# Altium footprint library PCB.PCBLIB: 320 footprints (part 2 of 20)
Each footprint in its own frame and in the unit in brackets; x right, y up, seen from the top. Pads: shape width x height; smd on the part's side, far side on the other; paste and mask are expansions set on the pad; w line width, h text height; cw(c..) or ccw(c..) is an arc to the next point about the centre after c.
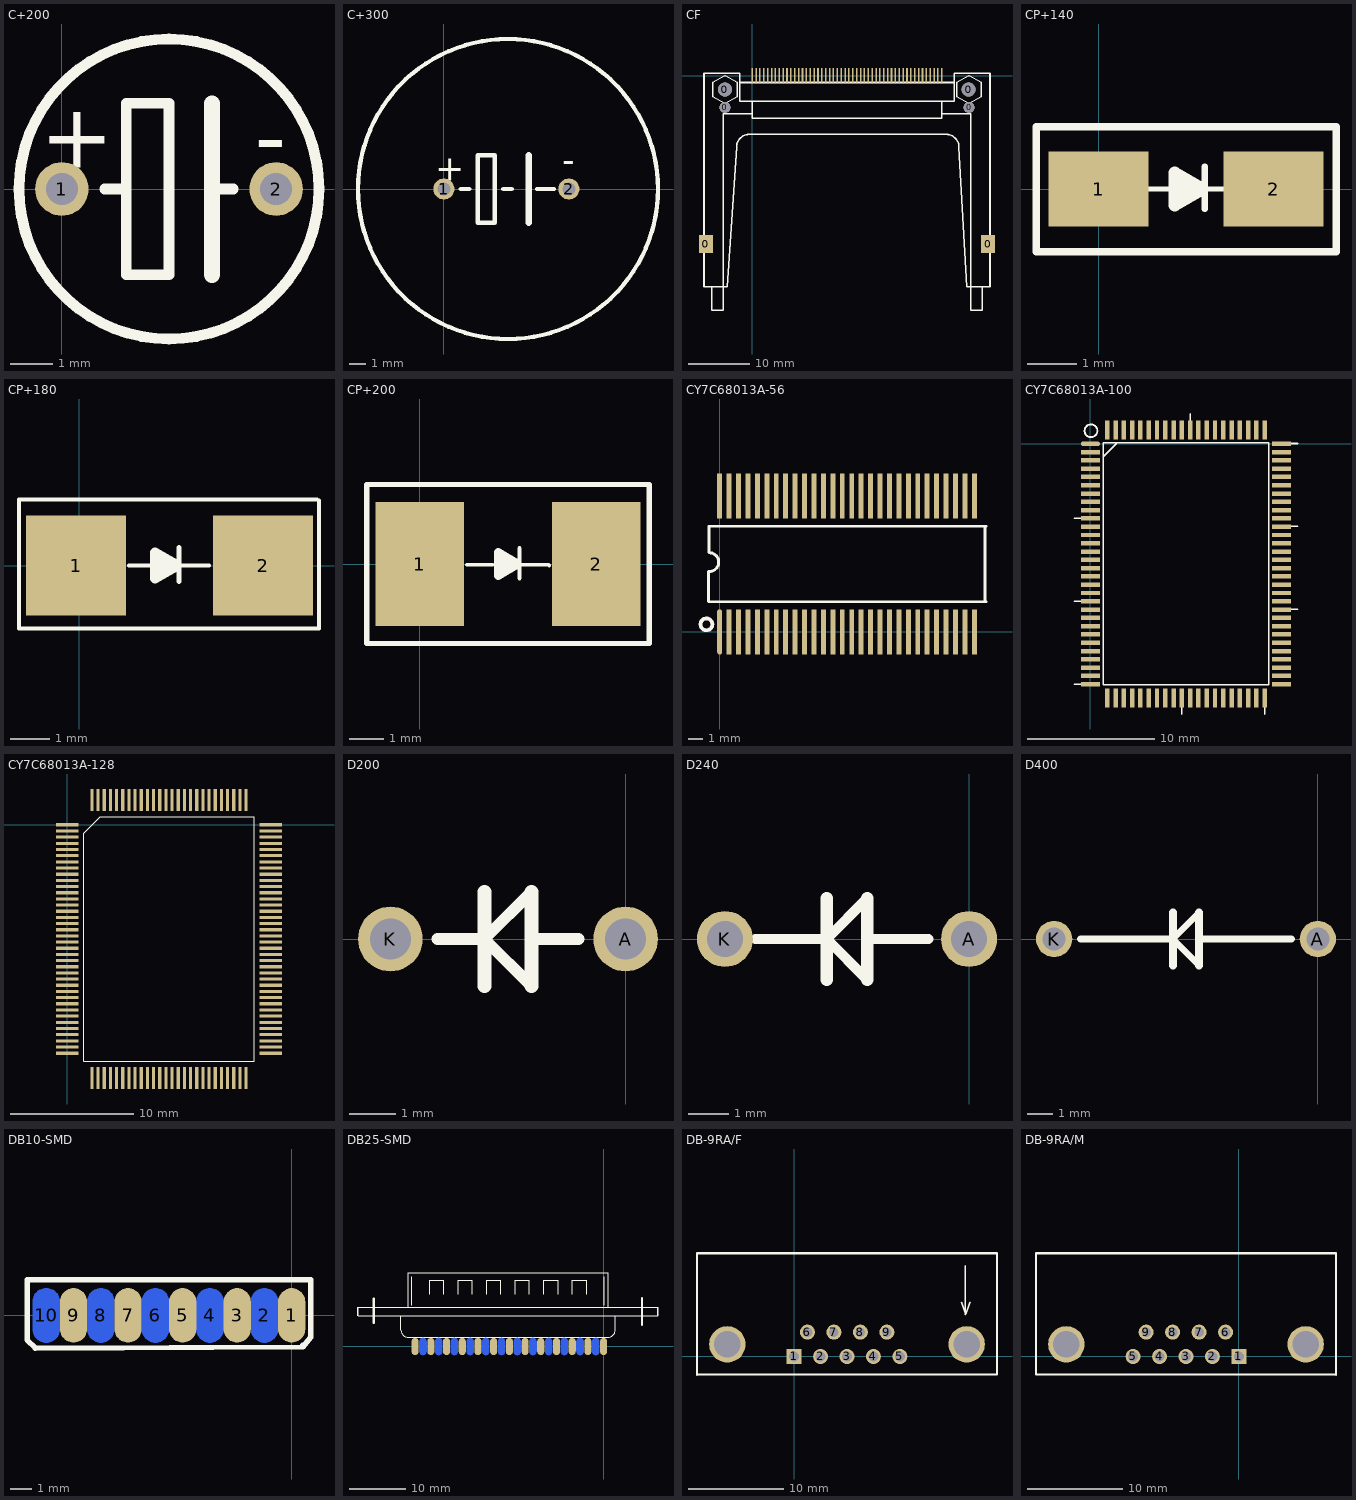
[diagram p1: the footprints below, top view; thin cyan lines are the x and y axes]

## C+200 [mil]
pads (2):
  round 50 hole 30: 1(0,0) 2(200,0)
TopOverlay:
  circle w10: c100,0 r140
  lines w10: 40,0 60,0 ; 140,0 160,0 ; 60,-80 100,-80 100,80 60,80 60,-80
  lines w15: 140,-80 140,80
  text "+" at -20,20 h60
  text "-" at 180,20 h60

## C+300 [mil]
pads (2):
  round 50 hole 30: 1(0,0) 2(295.28,0)
TopOverlay:
  circle w10: c151.34,0 r354.33
  lines w10: 40,0 60,0 ; 140,0 160,0 ; 220,0 260,0 ; 80,-80 120,-80 120,80 80,80 80,-80
  lines w15: 200,-80 200,80
  text "+" at -20,20 h60
  text "-" at 280,40 h60

## CF [mil]
pads (56):
  rect 90x115 smd: 0(-297.5,-1085) 0(1517.5,-1085)
  round 70 hole 70: 0(-175,-205) 0(1395,-205)
  round 90 hole 90: 0(-175,-90) 0(1392.5,-90)
  rect 10x100 smd: 1(0,0) 2(24.9,0) 3(49.8,0) 4(74.7,0) 5(99.6,0) 6(124.5,0) 7(149.4,0) 8(174.3,0) 9(199.2,0) 10(224.1,0) 11(249,0) 12(273.9,0) 13(298.8,0) 14(323.7,0) 15(348.6,0) 16(373.5,0) 17(398.4,0) 18(423.3,0) 19(448.2,0) 20(473.1,0) 21(498,0) 22(522.9,0) 23(547.8,0) 24(572.7,0) 25(597.6,0) 26(622.5,0) 27(647.4,0) 28(672.3,0) 29(697.2,0) 30(722.1,0) 31(747,0) 32(771.9,0) 33(796.8,0) 34(821.7,0) 35(846.6,0) 36(871.5,0) 37(896.4,0) 38(921.3,0) 39(946.2,0) 40(971.1,0) 41(996,0) 42(1020.9,0) 43(1045.8,0) 44(1070.7,0) 45(1095.6,0) 46(1120.5,0) 47(1145.4,0) 48(1170.3,0) 49(1195.2,0) 50(1220.1,0)
TopOverlay:
  lines w10: -260,-1360 -260,-1510 -185,-1510 -185,-1360 ; 0,-245 -185,-245 -185,-1360 ; 0,-165 0,-275 1220,-275 1220,-165 ; 1220,-245 1405,-245 1405,-1360 ; 1480,-1360 1480,-1510 1405,-1510 1405,-1360 ; -185,-1360 -310,-1360 -310,15 -80,15 -80,-45 ; -185,-1360 -160,-1360 -100.12,-460 cw(c-18.73,-460) -20.06,-378.62 1249.94,-378.62 cw(c1248.61,-460) 1330,-460 1380,-1360 1405,-1360 ; -80,-45 1300,-45 ; -80,-45 -80,-165 1300,-165 1300,-45 ; 1300,-45 1300,15 1530,15 1530,-1360 1405,-1360 ; -255,-135 -175,-180 -95,-135 -95,-45 -175,0 -255,-45 -255,-135 ; 1315,-135 1315,-45 1395,0 1475,-45 1475,-135 1395,-180 1315,-135

## CP+140 [mil]
pads (2):
  rect 80x60 smd: 1(0,0) 2(140,0)
TopOverlay:
  lines w4: 40,0 60,0 ; 83,0 100,0
  lines w5: 85,-16 85,18
  lines w6: -50,-50 190,-50 190,50 -50,50 -50,-50
  lines w10: 61,-13 82,-1 ; 61,-12 61,13 82,1 ; 61,0 71,0

## CP+180 [mil]
pads (2):
  rect 100x100 smd: 1(-3,0) 2(184,0)
TopOverlay:
  lines w3.94: -60,65 -60,-63 240,-63 240,65 ; -60,66 238,66 ; 50,0 70,0 ; 103,0 130,0
  lines w5: 100,-16 100,18
  lines w10: 76,-13 97,-1 ; 76,-12 76,13 97,1 ; 76,0 86,0

## CP+200 [mil]
pads (2):
  rect 100x140 smd: 1(0,0) 2(200,0)
TopOverlay:
  lines w3.94: 53,-1 83,-1 ; 115,-1 146,-1 147,-2
  lines w5: 113,-16 113,18
  lines w6: -60,-90 260,-90 260,90 -60,90 -60,-90
  lines w10: 89,-13 110,-1 ; 89,-12 89,13 110,1 ; 89,0 99,0

## CY7C68013A-56 [mil]
pads (56):
  oval 13x120 smd: 1(0,0)
  rect 13x120 smd: 2(25,0) 3(50,0) 4(75,0) 5(100,0) 6(125,0) 7(150,0) 8(175,0) 9(200,0) 10(225,0) 11(250,0) 12(275,0) 13(300,0) 14(325,0) 15(350,0) 16(375,0) 17(400,0) 18(425,0) 19(450,0) 20(475,0) 21(500,0) 22(525,0) 23(550,0) 24(575,0) 25(600,0) 26(625,0) 27(650,0) 28(675,0) 29(675,360) 30(650,360) 31(625,360) 32(600,360) 33(575,360) 34(550,360) 35(525,360) 36(500,360) 37(475,360) 38(450,360) 39(425,360) 40(400,360) 41(375,360) 42(350,360) 43(325,360) 44(300,360) 45(275,360) 46(250,360) 47(225,360) 48(200,360) 49(175,360) 50(150,360) 51(125,360) 52(100,360) 53(75,360) 54(50,360) 55(25,360) 56(0,360)
TopOverlay:
  circle w9.84: c-34.92,20 r15.75
  lines w7.87: -27.66,160.04 ccw(c-27.66,185.04) -27.66,210.04 -27.66,280 ; -25,80 705.32,80 ; -25,280 705.32,280 ; 702.66,80 702.66,280
  lines w8: -30,80 -30,160

## CY7C68013A-100 [mm]
pads (100):
  oval 1.5x0.35 smd: 1(0,0)
  rect 1.5x0.35 smd: 2(0,-0.65) 3(0,-1.3) 4(0,-1.95) 5(0,-2.6) 6(0,-3.25) 7(0,-3.9) 8(0,-4.55) 9(0,-5.2) 10(0,-5.85) 11(0,-6.5) 12(0,-7.15) 13(0,-7.8) 14(0,-8.45) 15(0,-9.1) 16(0,-9.75) 17(0,-10.4) 18(0,-11.05) 19(0,-11.7) 20(0,-12.35) 21(0,-13) 22(0,-13.65) 23(0,-14.3) 24(0,-14.95) 25(0,-15.6) 26(0,-16.25) 27(0,-16.9) 28(0,-17.55) 29(0,-18.2) 30(0,-18.85) 51(15,-18.85) 52(15,-18.2) 53(15,-17.55) 54(15,-16.9) 55(15,-16.25) 56(15,-15.6) 57(15,-14.95) 58(15,-14.3) 59(15,-13.65) 60(15,-13) 61(15,-12.35) 62(15,-11.7) 63(15,-11.05) 64(15,-10.4) 65(15,-9.75) 66(15,-9.1) 67(15,-8.45) 68(15,-7.8) 69(15,-7.15) 70(15,-6.5) 71(15,-5.85) 72(15,-5.2) 73(15,-4.55) 74(15,-3.9) 75(15,-3.25) 76(15,-2.6) 77(15,-1.95) 78(15,-1.3) 79(15,-0.65) 80(15,0)
  rect 0.35x1.5 smd: 31(1.325,-19.925) 32(1.975,-19.925) 33(2.625,-19.925) 34(3.275,-19.925) 35(3.925,-19.925) 36(4.575,-19.925) 37(5.225,-19.925) 38(5.875,-19.925) 39(6.525,-19.925) 40(7.175,-19.925) 41(7.825,-19.925) 42(8.475,-19.925) 43(9.125,-19.925) 44(9.775,-19.925) 45(10.425,-19.925) 46(11.075,-19.925) 47(11.725,-19.925) 48(12.375,-19.925) 49(13.025,-19.925) 50(13.675,-19.925) 81(13.675,1.075) 82(13.025,1.075) 83(12.375,1.075) 84(11.725,1.075) 85(11.075,1.075) 86(10.425,1.075) 87(9.775,1.075) 88(9.125,1.075) 89(8.475,1.075) 90(7.825,1.075) 91(7.175,1.075) 92(6.525,1.075) 93(5.875,1.075) 94(5.225,1.075) 95(4.575,1.075) 96(3.925,1.075) 97(3.275,1.075) 98(2.625,1.075) 99(1.975,1.075) 100(1.325,1.075)
TopOverlay:
  circle w0.152: c0.051,1.016 r0.5
  lines w0.127: -1.263,-18.848 -0.755,-18.848 ; -1.263,-12.346 -0.755,-12.346 ; -1.263,-5.844 -0.755,-5.844 ; 1,0.04 1,-18.89 14,-18.89 14,0.04 ; 1,0.075 14,0.075 ; 1.016,-1.016 2.032,0 ; 7.17,-21.185 7.17,-20.677 ; 7.83,1.827 7.83,2.335 ; 13.672,-21.185 13.672,-20.677 ; 15.755,-12.981 16.263,-12.981 ; 15.755,-6.479 16.263,-6.479 ; 15.755,0.024 16.263,0.024

## CY7C68013A-128 [mm]
pads (128):
  rect 1.8x0.254 smd: 1(0,0) 2(0,-0.5) 3(0,-1) 4(0,-1.5) 5(0,-2) 6(0,-2.5) 7(0,-3) 8(0,-3.5) 9(0,-4) 10(0,-4.5) 11(0,-5) 12(0,-5.5) 13(0,-6) 14(0,-6.5) 15(0,-7) 16(0,-7.5) 17(0,-8) 18(0,-8.5) 19(0,-9) 20(0,-9.5) 21(0,-10) 22(0,-10.5) 23(0,-11) 24(0,-11.5) 25(0,-12) 26(0,-12.5) 27(0,-13) 28(0,-13.5) 29(0,-14) 30(0,-14.5) 31(0,-15) 32(0,-15.5) 33(0,-16) 34(0,-16.5) 35(0,-17) 36(0,-17.5) 37(0,-18) 38(0,-18.5) 65(16.5,-18.5) 66(16.5,-18) 67(16.5,-17.5) 68(16.5,-17) 69(16.5,-16.5) 70(16.5,-16) 71(16.5,-15.5) 72(16.5,-15) 73(16.5,-14.5) 74(16.5,-14) 75(16.5,-13.5) 76(16.5,-13) 77(16.5,-12.5) 78(16.5,-12) 79(16.5,-11.5) 80(16.5,-11) 81(16.5,-10.5) 82(16.5,-10) 83(16.5,-9.5) 84(16.5,-9) 85(16.5,-8.5) 86(16.5,-8) 87(16.5,-7.5) 88(16.5,-7) 89(16.5,-6.5) 90(16.5,-6) 91(16.5,-5.5) 92(16.5,-5) 93(16.5,-4.5) 94(16.5,-4) 95(16.5,-3.5) 96(16.5,-3) 97(16.5,-2.5) 98(16.5,-2) 99(16.5,-1.5) 100(16.5,-1) 101(16.5,-0.5) 102(16.5,0)
  rect 0.254x1.8 smd: 39(2,-20.5) 40(2.5,-20.5) 41(3,-20.5) 42(3.5,-20.5) 43(4,-20.5) 44(4.5,-20.5) 45(5,-20.5) 46(5.5,-20.5) 47(6,-20.5) 48(6.5,-20.5) 49(7,-20.5) 50(7.5,-20.5) 51(8,-20.5) 52(8.5,-20.5) 53(9,-20.5) 54(9.5,-20.5) 55(10,-20.5) 56(10.5,-20.5) 57(11,-20.5) 58(11.5,-20.5) 59(12,-20.5) 60(12.5,-20.5) 61(13,-20.5) 62(13.5,-20.5) 63(14,-20.5) 64(14.5,-20.5) 103(14.5,2) 104(14,2) 105(13.5,2) 106(13,2) 107(12.5,2) 108(12,2) 109(11.5,2) 110(11,2) 111(10.5,2) 112(10,2) 113(9.5,2) 114(9,2) 115(8.5,2) 116(8,2) 117(7.5,2) 118(7,2) 119(6.5,2) 120(6,2) 121(5.5,2) 122(5,2) 123(4.5,2) 124(4,2) 125(3.5,2) 126(3,2) 127(2.5,2) 128(2,2)
TopOverlay:
  lines w0.1: 1.335,-19.165 1.335,-0.67 2.67,0.665 15.165,0.665 15.165,-19.165 1.335,-19.165

## D200 [mil]
pads (2):
  round 55 hole 35: A(0,0) K(-200,0)
TopOverlay:
  lines w10: -160,0 -120,0 ; -80,-40 -120,0 ; -80,0 -40,0 ; -80,40 -120,0
  lines w12: -120,-40 -120,40 ; -80,-40 -80,40

## D240 [mil]
pads (2):
  round 55 hole 35: A(0,0) K(-240,0)
TopOverlay:
  lines w10: -210,0 -140,0 ; -100,-40 -140,0 ; -100,40 -140,0 ; -60,0 -100,0 -40,0
  lines w12: -140,-40 -140,40 ; -100,-40 -100,40

## D400 [mil]
pads (2):
  round 55 hole 35: A(0,0) K(-400,0)
TopOverlay:
  lines w10: -360,0 -220,0 ; -180,-40 -220,0 ; -180,0 -40,0 ; -180,40 -220,0
  lines w12: -220,-40 -220,40 ; -180,-40 -180,40

## DB10-SMD [mil]
pads (10):
  oval 50x100 smd: 1(0,0) 3(-100,0) 5(-200,0) 7(-300,0) 9(-400,0)
  oval 50x100 smd far side: 2(-50,0) 4(-150,0) 6(-250,0) 8(-350,0) 10(-450,0)
TopOverlay:
  lines w10: 20,-55 20,-58 ; 20,-58 35,-40 35,65 -485,65 -485,50 -485,-45 -470,-60 20,-58

## DB25-SMD [mil]
pads (25):
  oval 50x120 smd: 1(0,0) 2(-110,0) 3(-220,0) 4(-330,0) 5(-440,0) 6(-550,0) 7(-660,0) 8(-770,0) 9(-880,0) 10(-990,0) 11(-1100,0) 12(-1210,0) 13(-1320,0)
  oval 50x120 smd far side: 14(-55,0) 15(-165,0) 16(-275,0) 17(-385,0) 18(-495,0) 19(-605,0) 20(-715,0) 21(-825,0) 22(-935,0) 23(-1045,0) 24(-1155,0) 25(-1265,0)
TopOverlay:
  lines w8: -1719.17,215 380.83,215 ; -1719.17,273.33 380.83,273.33 ; -1419.17,215 -1419.17,115 ccw(c-1369.17,115) -1369.17,65 30.83,65 ccw(c30.83,115) 80.83,115 80.83,215 ; -1369.17,273.33 -1369.17,515 30.83,515 30.83,273.33 ; -1344.17,290 -1344.17,490 ; -1219.17,365 -1219.17,465 -1119.17,465 -1119.17,365 ; -1019.17,365 -1019.17,465 -919.17,465 -919.17,365 ; -819.17,365 -819.17,465 -719.17,465 -719.17,365 ; -619.17,365 -619.17,465 -519.17,465 -519.17,365 ; -419.17,365 -419.17,465 -319.17,465 -319.17,365 ; -219.17,365 -219.17,465 -119.17,465 -119.17,365 ; 5.83,290 5.83,490
  lines w10: -1720,215 -1720,275 ; 380,215 380,275
  lines w15: -1610,165 -1610,335 ; 270,150 270,340

## DB-9RA/F [mil]
pads (11):
  rect 62x62 hole 40: 1(0,0)
  round 62 hole 40: 2(109,0) 3(218,0) 4(327,0) 5(436,0) 6(55,100) 7(164,100) 8(273,100) 9(382,100)
  round 150 hole 110: ""(-275,50) ""(711,50)
TopOverlay:
  lines w7: 705,172 705,373
  lines w8: -400,-75 836,-75 836,425
  lines w10: -400,-75 -400,425 836,425
  text "<" at 734,163 h60
BottomOverlay:
  text "R" at 230,40 h40
  text "T" at 119,41 h40
  text "G" at 450,46 h40

## DB-9RA/M [mil]
pads (11):
  rect 62x62 hole 40: 1(0,0)
  round 62 hole 40: 2(-109,0) 3(-218,0) 4(-327,0) 5(-436,0) 6(-55,100) 7(-164,100) 8(-273,100) 9(-382,100)
  round 150 hole 110: ""(-711,50) ""(275,50)
TopOverlay:
  lines w8: -836,425 -836,-75 400,-75
  lines w10: -836,425 400,425 400,-75